# Altium footprint library UC-PCB.PcbLib: 145 footprints (part 4 of 10)
Each footprint in its own frame and in the unit in brackets; x right, y up, seen from the top. Pads: shape width x height; smd on the part's side, far side on the other; paste and mask are expansions set on the pad; w line width, h text height; cw(c..) or ccw(c..) is an arc to the next point about the centre after c.
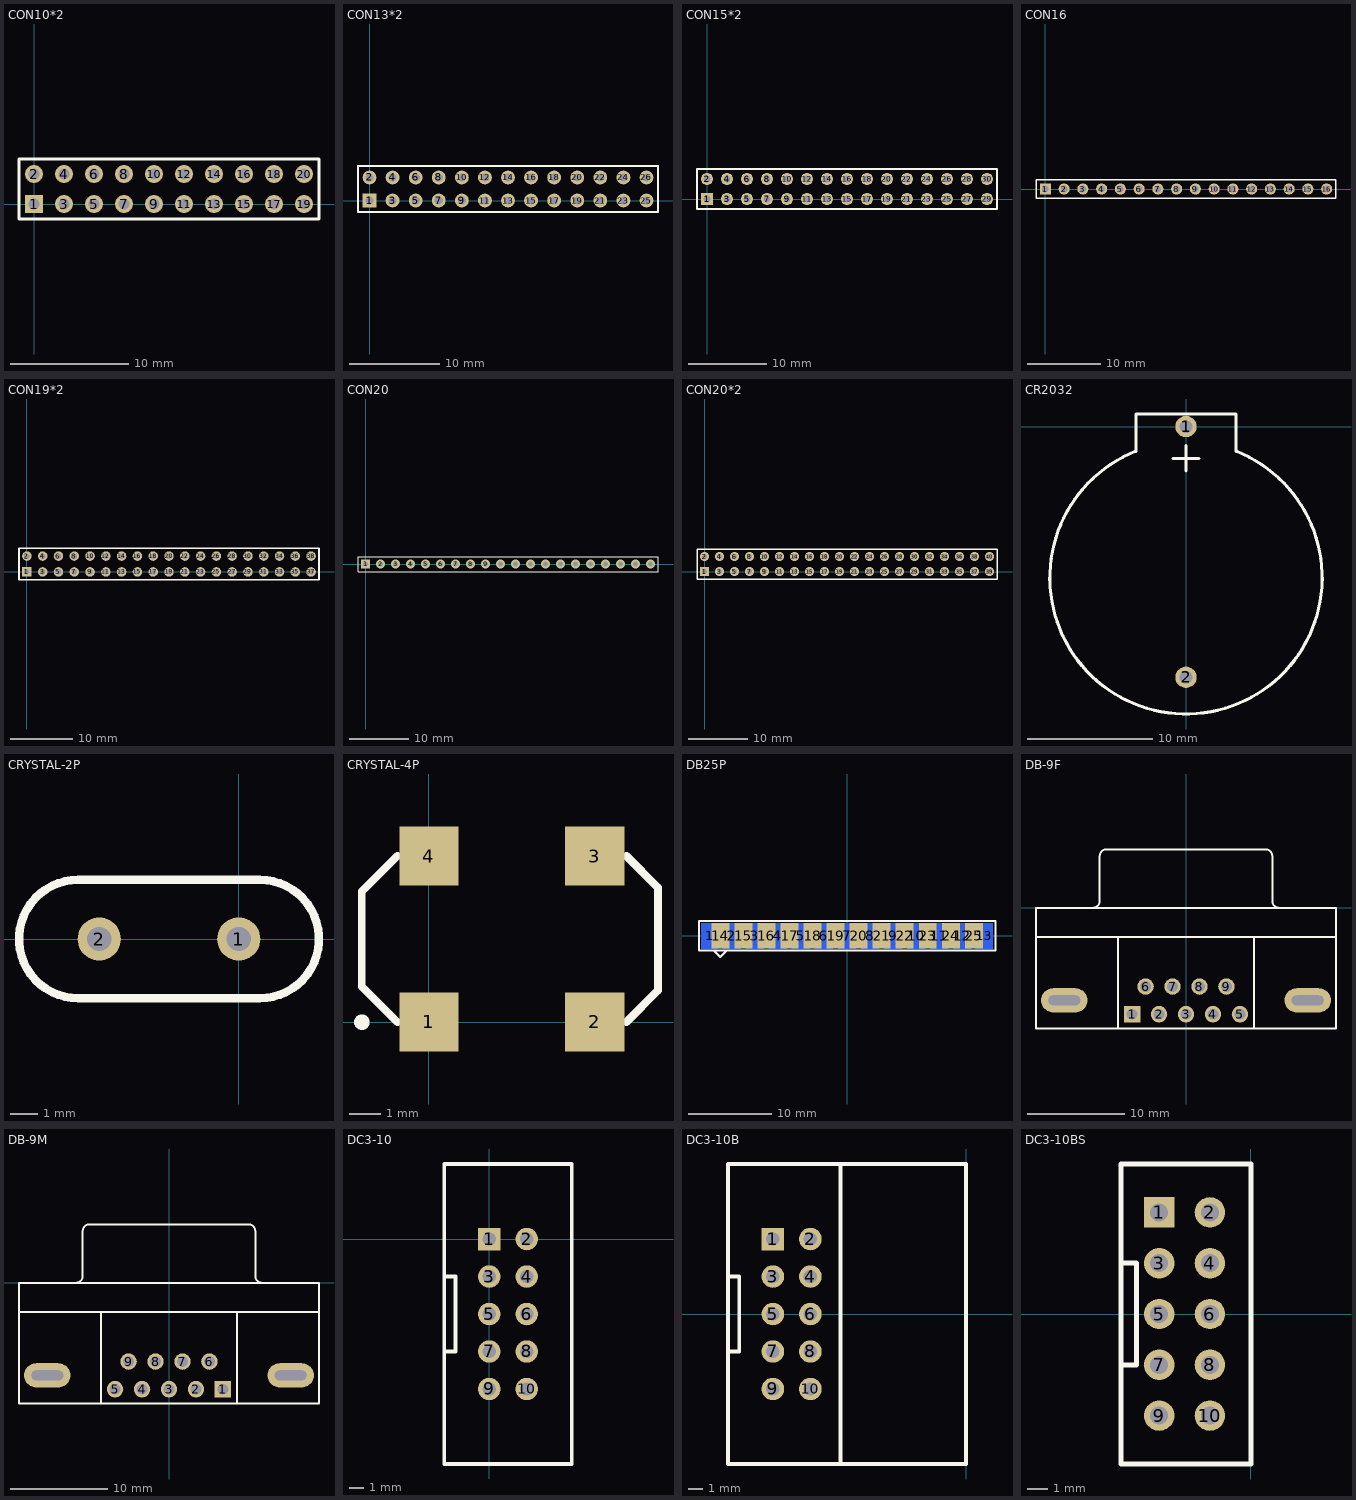
[diagram p3: the footprints below, top view; thin cyan lines are the x and y axes]

## CON10*2 [mil]
pads (20):
  rect 60x60 hole 35.4: 1(0,0)
  round 60 hole 35.4: 2(0,100) 3(100,0) 4(100,100) 5(200,0) 6(200,100) 7(300,0) 8(300,100) 9(400,0) 10(400,100) 11(500,0) 12(500,100) 13(600,0) 14(600,100) 15(700,0) 16(700,100) 17(800,0) 18(800,100) 19(900,0) 20(900,100)
Top Overlay:
  lines w10: -50,-50 950,-50 950,150 -50,150 -50,-50

## CON13*2 [mil]
pads (26):
  rect 60x60 hole 35.4: 1(0,0)
  round 60 hole 35.4: 2(0,100) 3(100,0) 4(100,100) 5(200,0) 6(200,100) 7(300,0) 8(300,100) 9(400,0) 10(400,100) 11(500,0) 12(500,100) 13(600,0) 14(600,100) 15(700,0) 16(700,100) 17(800,0) 18(800,100) 19(900,0) 20(900,100) 21(1000,0) 22(1000,100) 23(1100,0) 24(1100,100) 25(1200,0) 26(1200,100)
Top Overlay:
  lines w10: -50,-50 -50,150 1250,150 1250,-50 -50,-50

## CON15*2 [mil]
pads (30):
  rect 60x60 hole 35.4: 1(0,0)
  round 60 hole 35.4: 2(0,100) 3(100,0) 4(100,100) 5(200,0) 6(200,100) 7(300,0) 8(300,100) 9(400,0) 10(400,100) 11(500,0) 12(500,100) 13(600,0) 14(600,100) 15(700,0) 16(700,100) 17(800,0) 18(800,100) 19(900,0) 20(900,100) 21(1000,0) 22(1000,100) 23(1100,0) 24(1100,100) 25(1200,0) 26(1200,100) 27(1300,0) 28(1300,100) 29(1400,0) 30(1400,100)
Top Overlay:
  lines w10: -50,-50 1450,-50 1450,150 -50,150 -50,-50

## CON16 [mm]
pads (16):
  rect 1.5x1.5 hole 0.9: 1(0,0)
  round 1.5 hole 0.9: 2(2.54,0) 3(5.08,0) 4(7.62,0) 5(10.16,0) 6(12.7,0) 7(15.24,0) 8(17.78,0) 9(20.32,0) 10(22.86,0) 11(25.4,0) 12(27.94,0) 13(30.48,0) 14(33.02,0) 15(35.56,0) 16(38.1,0)
Top Overlay:
  lines w0.2: -1.27,-1.27 -1.27,1.27 0.635,1.27 39.37,1.27 39.37,-1.27 -1.27,-1.27

## CON19*2 [mil]
pads (38):
  rect 60x60 hole 35.4: 1(0,0)
  round 60 hole 35.4: 2(0,100) 3(100,0) 4(100,100) 5(200,0) 6(200,100) 7(300,0) 8(300,100) 9(400,0) 10(400,100) 11(500,0) 12(500,100) 13(600,0) 14(600,100) 15(700,0) 16(700,100) 17(800,0) 18(800,100) 19(900,0) 20(900,100) 21(1000,0) 22(1000,100) 23(1100,0) 24(1100,100) 25(1200,0) 26(1200,100) 27(1300,0) 28(1300,100) 29(1400,0) 30(1400,100) 31(1500,0) 32(1500,100) 33(1600,0) 34(1600,100) 35(1700,0) 36(1700,100) 37(1800,0) 38(1800,100)
Top Overlay:
  lines w10: -50,-50 -50,150 1850,150 1850,-50 -50,-50

## CON20 [mm]
pads (20):
  rect 1.5x1.5 hole 0.9: 1(0,0)
  round 1.5 hole 0.9: 2(2.54,0) 3(5.08,0) 4(7.62,0) 5(10.16,0) 6(12.7,0) 7(15.24,0) 8(17.78,0) 9(20.32,0) 10(22.86,0) 11(25.4,0) 12(27.94,0) 13(30.48,0) 14(33.02,0) 15(35.56,0) 16(38.1,0) 17(40.64,0) 18(43.18,0) 19(45.72,0) 20(48.26,0)
Top Overlay:
  lines w0.2: -1.27,-1.27 49.53,-1.27 49.53,1.27 0.635,1.27 -1.27,1.27 -1.27,-1.27

## CON20*2 [mil]
pads (40):
  rect 60x60 hole 35.4: 1(0,0)
  round 60 hole 35.4: 2(0,100) 3(100,0) 4(100,100) 5(200,0) 6(200,100) 7(300,0) 8(300,100) 9(400,0) 10(400,100) 11(500,0) 12(500,100) 13(600,0) 14(600,100) 15(700,0) 16(700,100) 17(800,0) 18(800,100) 19(900,0) 20(900,100) 21(1000,0) 22(1000,100) 23(1100,0) 24(1100,100) 25(1200,0) 26(1200,100) 27(1300,0) 28(1300,100) 29(1400,0) 30(1400,100) 31(1500,0) 32(1500,100) 33(1600,0) 34(1600,100) 35(1700,0) 36(1700,100) 37(1800,0) 38(1800,100) 39(1900,0) 40(1900,100)
Top Overlay:
  lines w10: -50,-50 -50,150 1950,150 1950,-50 -50,-50

## CR2032 [mm]
pads (2):
  round 1.7 hole 1: 1(0,0) 2(0,-20)
Top Overlay:
  lines w0.254: -1.016,-2.54 1.016,-2.54 ; 0,-3.556 0,-1.524 ; -4,-1.968 ccw(c0,-12.065) 4,-1.968 4,1 -4,1 -4,-1.968

## CRYSTAL-2P [mil]
pads (2):
  round 62 hole 35: 1(0,0) 2(-200,0)
Top Overlay:
  lines w12: -230,-85 cw(c-230,0) -230,85 30,85 cw(c30,0) 30,-85 -230,-85

## CRYSTAL-4P [mm]
pads (4):
  rect 1.905x1.905 smd: 1(0.007,0.005) 2(5.341,0.005) 3(5.341,5.339) 4(0.007,5.339)
Top Overlay:
  circle w0.25: c-2.148,-0.001 r0.125
  lines w0.254: -1.009,0.005 -2.152,1.148 -2.152,4.196 -1.009,5.339 ; 6.357,0.005 7.373,1.021 7.373,4.323 6.357,5.339

## DB25P [mil]
pads (25):
  rect 78.74x120 smd far side: 1(-649.61,0) 13(649.61,0)
  rect 85x120 smd far side: 2(-545,0) 3(-436,0) 4(-327,0) 5(-218,0) 6(-109,0) 7(0,0) 8(109,0) 9(218,0) 10(327,0) 11(436,0) 12(545,0)
  rect 85x120 smd: 14(-599,0) 15(-490,0) 16(-381,0) 17(-272,0) 18(-163,0) 19(-54,0) 20(55,0) 21(164,0) 22(273,0) 23(382,0) 24(491,0) 25(600,0)
Top Overlay:
  lines w10: -629,-71 -600,-100 -570,-70 ; 702,69 702,-70 -700,-70 -700,0 -700,70 702,70

## DB-9F [mm]
height 12.75
pads (11):
  rect 1.69x1.69 hole 1.09: 1(-5.54,-10.92)
  round 1.69 hole 1.09: 2(-2.77,-10.92) 3(0,-10.92) 4(2.77,-10.92) 5(5.54,-10.92) 6(-4.155,-8.08) 7(-1.385,-8.08) 8(1.385,-8.08) 9(4.155,-8.08)
  oval 4.76x2.5 hole 1 slot 3.26 at 0 deg: ""(-12.495,-9.5) ""(12.495,-9.5)
Top Overlay:
  lines w0.2: -15.4,-3 15.4,-3 ; -9.56,0.005 ccw(c-9.56,0.7) -8.865,0.7 -8.865,5.3 ; -8.86,5.305 cw(c-8.165,5.305) -8.165,6 8.165,6 cw(c8.165,5.305) 8.86,5.305 ; -7,-12.4 -7,-3 ; 7,-12.4 7,-3 ; 8.865,5.3 8.865,0.7 ccw(c9.56,0.7) 9.56,0.005 ; -15.4,-12.4 15.4,-12.4 15.4,0 -15.4,0 -15.4,-12.4

## DB-9M [mm]
height 12.75
pads (11):
  rect 1.69x1.69 hole 1.09: 1(5.54,-10.92)
  round 1.69 hole 1.09: 2(2.77,-10.92) 3(0,-10.92) 4(-2.77,-10.92) 5(-5.54,-10.92) 6(4.155,-8.08) 7(1.385,-8.08) 8(-1.385,-8.08) 9(-4.155,-8.08)
  oval 4.76x2.5 hole 1 slot 3.26 at 0 deg: ""(-12.495,-9.5) ""(12.495,-9.5)
Top Overlay:
  lines w0.2: -15.4,-3 15.4,-3 ; -9.56,0.005 ccw(c-9.56,0.7) -8.865,0.7 -8.865,5.3 ; -8.86,5.305 cw(c-8.165,5.305) -8.165,6 8.165,6 cw(c8.165,5.305) 8.86,5.305 ; -7,-12.4 -7,-3 ; 7,-12.4 7,-3 ; 8.865,5.3 8.865,0.7 ccw(c9.56,0.7) 9.56,0.005 ; -15.4,-12.4 -15.4,0 15.4,0 15.4,-12.4 -15.4,-12.4

## DC3-10 [mil]
pads (10):
  rect 60x60 hole 35.43: 1(0,0)
  round 60 hole 35.43: 2(100,0) 3(0,-100) 4(100,-100) 5(0,-200) 6(100,-200) 7(0,-300) 8(100,-300) 9(0,-400) 10(100,-400)
Top Overlay:
  lines w10: -120,-300 -90,-300 -90,-100 -120,-100 ; -120,-600 -120,200 220,200 220,-600 -120,-600

## DC3-10B [mil]
pads (10):
  rect 60x60 hole 35.43: 1(-515.28,200)
  round 60 hole 35.43: 2(-415.28,200) 3(-515.28,100) 4(-415.28,100) 5(-515.28,0) 6(-415.28,0) 7(-515.28,-100) 8(-415.28,-100) 9(-515.28,-200) 10(-415.28,-200)
Top Overlay:
  lines w10: -635.28,-100 -605.28,-100 -605.28,100 -635.28,100 ; -334.65,-400 -334.65,400 ; -635.28,-400 -295.28,-400 0,-400 0,400 -295.28,400 -635.28,400 -635.28,-400

## DC3-10BS [mil]
pads (10):
  rect 60x60 hole 35.43: 1(-180.63,200)
  round 60 hole 35.43: 2(-80.63,200) 3(-180.63,100) 4(-80.63,100) 5(-180.63,0) 6(-80.63,0) 7(-180.63,-100) 8(-80.63,-100) 9(-180.63,-200) 10(-80.63,-200)
Top Overlay:
  lines w10: -255.63,-100 -225.63,-100 -225.63,100 -255.63,100 ; -255.55,-295.28 0,-295.28 0,295.28 -255.55,295.28 -255.55,-295.28